# Altium footprint library Buck.PcbLib: 58 footprints (part 4 of 4)
Each footprint in its own frame and in the unit in brackets; x right, y up, seen from the top. Pads: shape width x height; smd on the part's side, far side on the other; paste and mask are expansions set on the pad; w line width, h text height; cw(c..) or ccw(c..) is an arc to the next point about the centre after c.
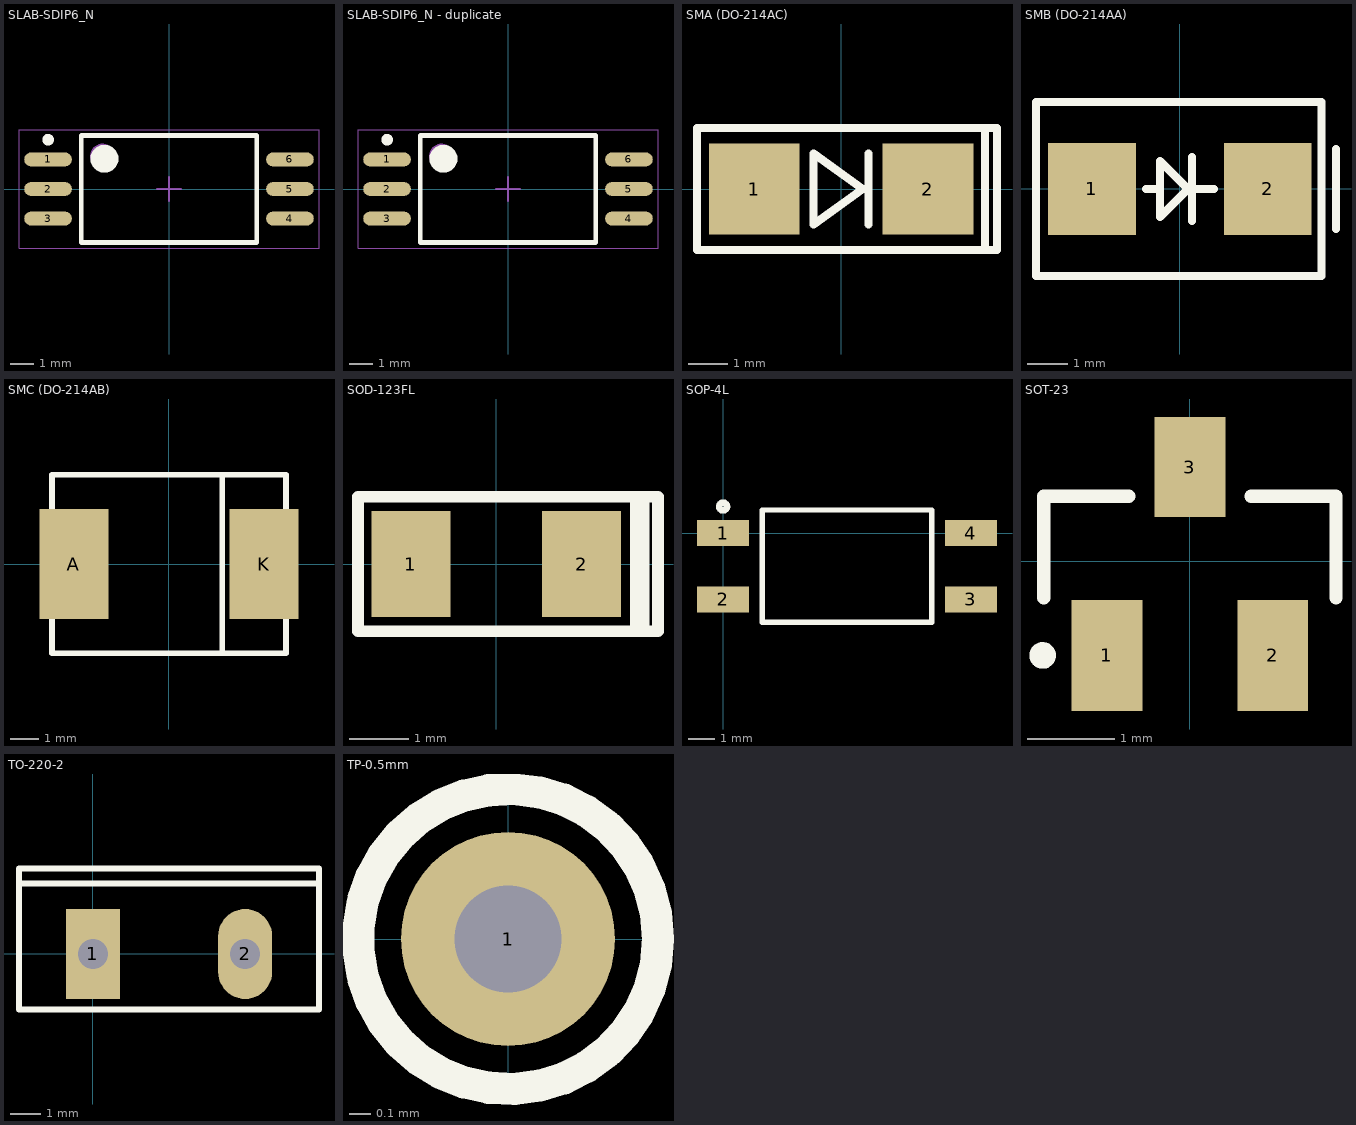
[diagram p3: the footprints below, top view; thin cyan lines are the x and y axes]

## SLAB-SDIP6_N [mm] "SOP, 6-Leads, Body 7.5x4.58mm, Pitch 1.27mm, IPC Medium Density"
height 2.65
pads (6):
  oval 2.05x0.6 smd: 1(-5.2,1.27) 2(-5.2,0) 3(-5.2,-1.27) 4(5.2,-1.27) 5(5.2,0) 6(5.2,1.27)
Top Overlay:
  circle w0.25: c-5.2,2.12 r0.125
  circle w0.6: c-2.775,1.3 r0.3
  lines w0.2: -3.775,-2.3 -3.775,2.3 3.775,2.3 3.775,-2.3 -3.775,-2.3
Mechanical 13:
  circle w0.1: c-2.85,1.4 r0.5
  lines w0.1: -3.75,-2.3 -3.75,2.3 3.75,2.3 3.75,-2.3 -3.75,-2.3
Mechanical 15:
  lines w0.05: -6.45,-2.55 -6.45,2.55 6.45,2.55 6.45,-2.55 -6.45,-2.55
  lines w0.1: -0.5,0 0.5,0 ; 0,-0.5 0,0.5
3D body: height 2.65, standoff 0.1, extent -3.75,-2.3 3.75,2.3

## SLAB-SDIP6_N - duplicate [mm] "SOP, 6-Leads, Body 7.5x4.58mm, Pitch 1.27mm, IPC Medium Density"
height 2.65
pads (6):
  oval 2.05x0.6 smd: 1(-5.2,1.27) 2(-5.2,0) 3(-5.2,-1.27) 4(5.2,-1.27) 5(5.2,0) 6(5.2,1.27)
Top Overlay:
  circle w0.6: c-2.775,1.3 r0.3
  circle w0.25: c-5.2,2.12 r0.125
  lines w0.2: -3.775,-2.3 3.775,-2.3 3.775,2.3 -3.775,2.3 -3.775,-2.3
Mechanical 13:
  circle w0.1: c-2.85,1.4 r0.5
  lines w0.1: -3.75,-2.3 3.75,-2.3 3.75,2.3 -3.75,2.3 -3.75,-2.3
Mechanical 15:
  lines w0.05: -6.45,-2.55 6.45,-2.55 6.45,2.55 -6.45,2.55 -6.45,-2.55
  lines w0.1: -0.5,0 0.5,0 ; 0,-0.5 0,0.5
3D body: height 2.65, standoff 0.1, extent -3.75,-2.3 3.75,2.3

## SMA (DO-214AC) [mm]
pads (2):
  rect 2.3x2.3 smd: 1(-2.2,0) 2(2.2,0)
Top Overlay:
  lines w0.203: 0.7,-0.9 0.7,0.9 ; 3.65,-1.55 3.65,1.55 ; -3.65,-1.55 -3.65,1.55 3.95,1.55 3.95,-1.55 -3.65,-1.55 ; -0.7,-0.9 0.55,0 -0.7,0.9 -0.7,-0.9
3D body "User Library-DO-214AC SMA.step": height 2.4, standoff 0, extent -2.6,-1.3 2.6,1.3

## SMB (DO-214AA) [mm]
pads (2):
  rect 2.2x2.3 smd: 1(-2.2,0) 2(2.2,0)
Top Overlay:
  lines w0.2: -3.6,-2.18 3.55,-2.18 ; -3.6,-2.17 -3.6,2.18 3.55,2.18 3.55,-2.17 ; 3.907,-1 3.907,1
  lines w0.203: -0.85,0 -0.6,0 ; 0.3,-0.8 0.3,0.8 ; 0.4,0 0.85,0 ; -0.5,-0.7 -0.5,0.6 -0.5,0.7 0.2,0 -0.5,-0.7
3D body "User Library-DO-214AA(SMB).STEP": height 2.6, standoff -0.05, extent -2.742,-1.937 2.846,2.013

## SMC (DO-214AB) [mm] "SMC-DIODE"
pads (2):
  rect 2.4x3.81 smd: A(-3.3,0) K(3.3,0)
Top Overlay:
  lines w0.203: -4.064,-1.905 -4.064,-3.099 4.064,-3.099 4.064,-1.905 ; -4.064,1.905 -4.064,3.099 4.064,3.099 4.064,1.905 ; 1.85,-3.05 1.85,3.099

## SOD-123FL [mm] "SOD-123FL"
pads (2):
  rect 1.34x1.8 smd: 1(-1.45,0) 2(1.45,0)
Top Overlay:
  lines w0.203: 2.38,-1.143 2.38,1.143 ; 2.5,-1.143 2.5,1.1 ; -2.346,-1.143 -2.346,1.143 2.75,1.143 2.75,-1.143 -2.346,-1.143
3D body "User Library-SOD123.step": height 1.35, standoff 0, extent -1.85,-0.775 1.85,0.775

## SOP-4L [mm] "Small Outline; 6 Leads (1 Absent); Body Width 4.4 mm; Pitch 1.27 mm"
height 2.4
pads (4):
  rect 2x1 smd: 1(0,0) 2(0,-2.54) 3(9.5,-2.54) 4(9.5,0)
Top Overlay:
  circle w0.25: c0,1.016 r0.15
  lines w0.2: 1.5,-3.42 8.001,-3.42 8.001,0.88 2.967,0.88 1.5,0.88 1.5,-0.777 1.5,-3.42
3D body "User Library-TCLT100-SOP4L.STEP": height 2.1, standoff -0.02, extent -0.3,-3.3 9.9,0.8

## SOT-23 [mil] "SOT-23"
height 106.3
pads (3):
  rect 32x50 smd: 1(-37.4,-42.5) 2(37.4,-42.5)
  rect 32x45 smd: 3(0,42.5)
Top Overlay:
  circle w6: c-66.4,-42.5 r3
  lines w6: -65.94,-16.5 -65.94,29.35 -27.56,29.35 ; 27.56,29.35 65.94,29.35 65.94,-16.5
3D body "SOT23.STEP": height 47.24, standoff -0.89, extent -59.05,-45.48 59.06,43.16

## TO-220-2 [mm]
height 1.22
pads (2):
  rect 1.8x3 hole 1: 1(0,0)
  oval 1.8x3 hole 1: 2(5.08,0)
Top Overlay:
  lines w0.2: -2.46,2.35 7.54,2.35 ; -2.46,-1.85 7.54,-1.85 7.54,2.85 -2.46,2.85 -2.46,-1.85

## TP-0.5mm [mm]
pads (1):
  round 1 hole 0.5: 1(0,0)
Top Overlay:
  circle w0.15: c0,0 r0.7